# EAGLE library part TPA6140A2YFFT (library TPA6140A2YFFT)
CLASS-G DIRECTPATH STEREO HEADPHONE AMPLIFIER Source: Datasheet
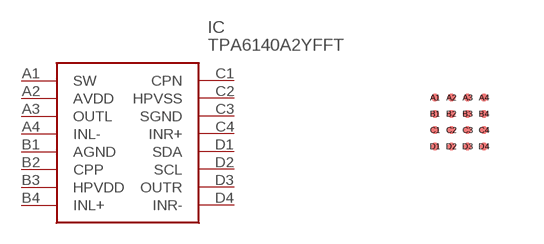
[diagram p0: symbol with the pads of BGA16C40P4X4_156X156X63; footprint BGA16C40P4X4_156X156X63]

Designator prefix IC

## TPA6140A2YFFT (Arrow_Part_Number: TPA6140A2YFFT; Description: CLASS-G DIRECTPATH STEREO HEADPHONE AMPLIFIER; Height: mm; Manufacturer_Name: Texas Instruments; Manufacturer_Part_Number: TPA6140A2YFFT; Mouser_Part_Number: 595-TPA6140A2YFFT; Mouser_Price-Stock: https://www.mouser.com/Search/Refine.aspx?Keyword=595-TPA6140A2YFFT)  [BGA16C40P4X4_156X156X63]
A1  SW
A2  AVDD
A3  OUTL
A4  INL-
B1  AGND
B2  CPP
B3  HPVDD
B4  INL+
C1  CPN
C2  HPVSS
C3  SGND
C4  INR+
D1  SDA
D2  SCL
D3  OUTR
D4  INR-

## Footprint BGA16C40P4X4_156X156X63 (pad centres in mm)
BGA16C40P4X4_156X156X63
smd 0.203 x 0.203: A1 -0.61,0.61; A2 -0.203,0.61; A3 0.203,0.61; A4 0.61,0.61; B1 -0.61,0.203; B2 -0.203,0.203; B3 0.203,0.203; B4 0.61,0.203; C1 -0.61,-0.203; C2 -0.203,-0.203; C3 0.203,-0.203; C4 0.61,-0.203; D1 -0.61,-0.61; D2 -0.203,-0.61; D3 0.203,-0.61; D4 0.61,-0.61